# Altium footprint library bmp280_i2c.PcbLib: 1 footprints
Each footprint in its own frame and in the unit in brackets; x right, y up, seen from the top. Pads: shape width x height; smd on the part's side, far side on the other; paste and mask are expansions set on the pad; w line width, h text height; cw(c..) or ccw(c..) is an arc to the next point about the centre after c.
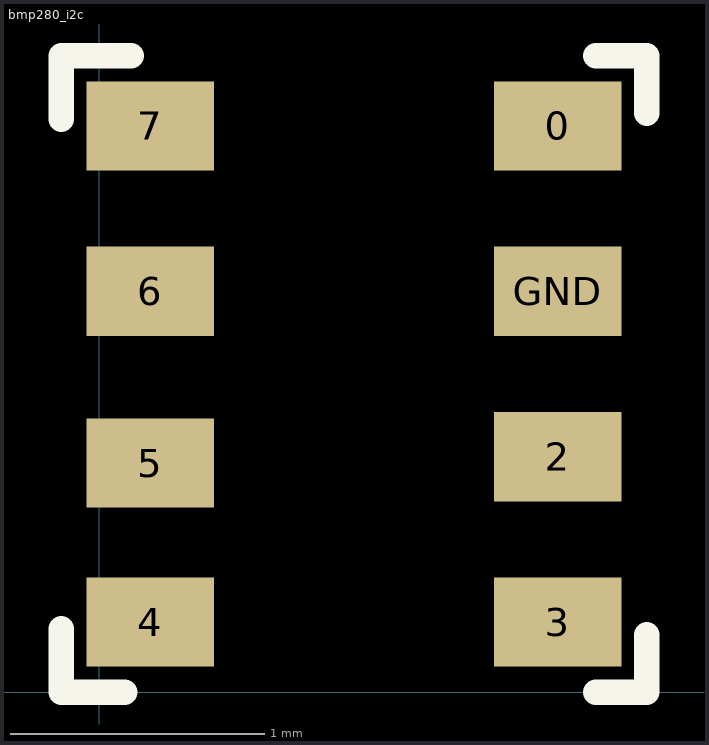
[diagram p0: the footprint, top view; thin cyan lines are the x and y axes]

## bmp280_i2c [mm] "pressure sensor"
pads (8):
  rect 0.5x0.35 smd: 0(1.8,2.225) 2(1.8,0.925) 3(1.8,0.275) 4(0.2,0.275) 5(0.2,0.9) 6(0.2,1.575) 7(0.2,2.225) GND(1.8,1.575)
Top Overlay:
  lines w0.1: -0.15,0.25 -0.15,0 0.1,0 ; -0.15,2.25 -0.15,2.5 0.125,2.5 ; 1.95,0 2.15,0 2.15,0.225 ; 1.95,2.5 2.15,2.5 2.15,2.275
3D body: height 1, standoff 0, extent 0,0 2.007,2.489